# EAGLE library part DP_DEVICES_CON-USB-F (library foxcar-control-board-v1)
USB Female connector
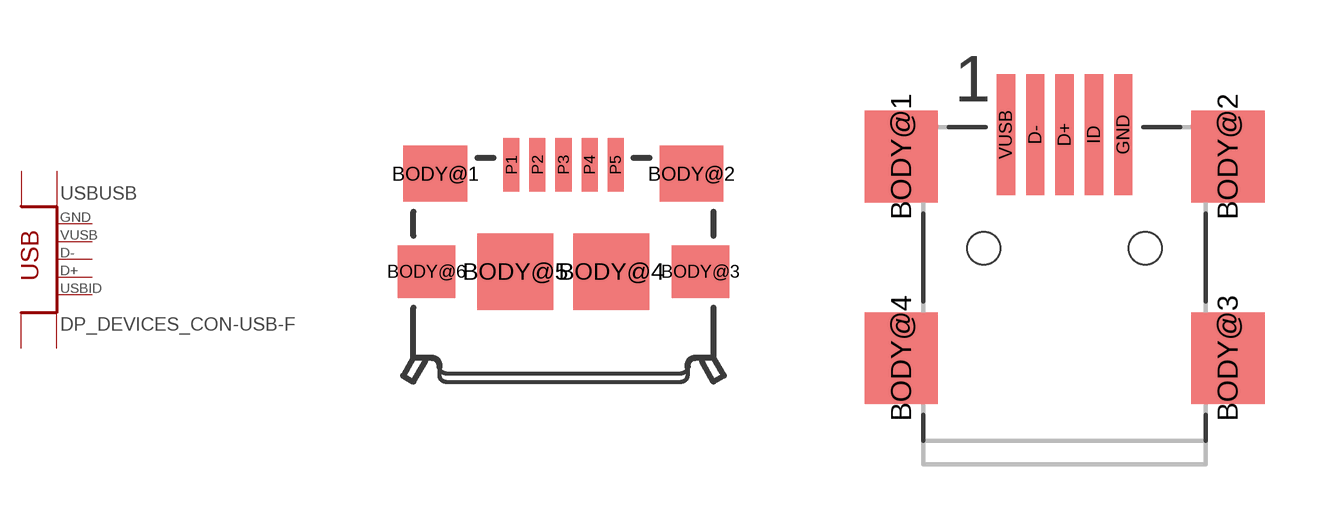
[diagram p5: symbol with the pads of DP_DEVICES_CONN_USB_MICRO-B; footprints DP_DEVICES_CONN_USB_MICRO-B, DP_DEVICES_CONN_USB_MINI-B]

Designator prefix USB; gates BODY=DP_DEVICES_USB_BODY_PINS USB=DP_DEVICES_CONN_USB

## DP_DEVICES_CON-USB-F-MICRO-B  [DP_DEVICES_CONN_USB_MICRO-B]
BODY@1  BODY:BODY  hiz
BODY@2  BODY:BODY  hiz
BODY@3  BODY:BODY  hiz
BODY@4  BODY:BODY  hiz
P1  USB:VUSB
P2  USB:D-
P3  USB:D+
P4  USB:USBID
P5  USB:GND

## DP_DEVICES_CON-USB-F-MINI-B  [DP_DEVICES_CONN_USB_MINI-B]
BODY@1  BODY:BODY  hiz
BODY@2  BODY:BODY  hiz
BODY@3  BODY:BODY  hiz
BODY@4  BODY:BODY  hiz
D+  USB:D+
D-  USB:D-
GND  USB:GND
ID  USB:USBID
VUSB  USB:VUSB

## Footprint DP_DEVICES_CONN_USB_MICRO-B (pad centres in mm)
USB micro-b connector SMT 0.65 mm pitch, 1.45mm from center to PCB edge, Based on TE part number 1981568-1
smd 1.6 x 1.4: BODY@1 -3.2,2.45; BODY@2 3.2,2.45
smd 1.45 x 1.3: BODY@3 3.425,0; BODY@6 -3.425,0
smd 1.9 x 1.9: BODY@4 1.2,0; BODY@5 -1.2,0
smd 0.4 x 1.35: P1 -1.3,2.675; P2 -0.65,2.675; P3 0,2.675; P4 0.65,2.675; P5 1.3,2.675

## Footprint DP_DEVICES_CONN_USB_MINI-B (pad centres in mm)
USB mini-b connector SMT 0.8 mm pitch adjusted pad dimesion (0.5 x 3.3 mm) on pin 1 to 5
smd 2 x 2.5: BODY@1 -4.45,2.5; BODY@2 4.45,2.5; BODY@3 4.45,-3; BODY@4 -4.45,-3
smd 0.5 x 3.3: D+ 0,3.1; D- -0.8,3.1; GND 1.6,3.1; ID 0.8,3.1; VUSB -1.6,3.1
hole 0.9 at -2.2,0
hole 0.9 at 2.2,0